# EAGLE library part MSP430G2553_RHB_32 (library Z-Wave_Europe)
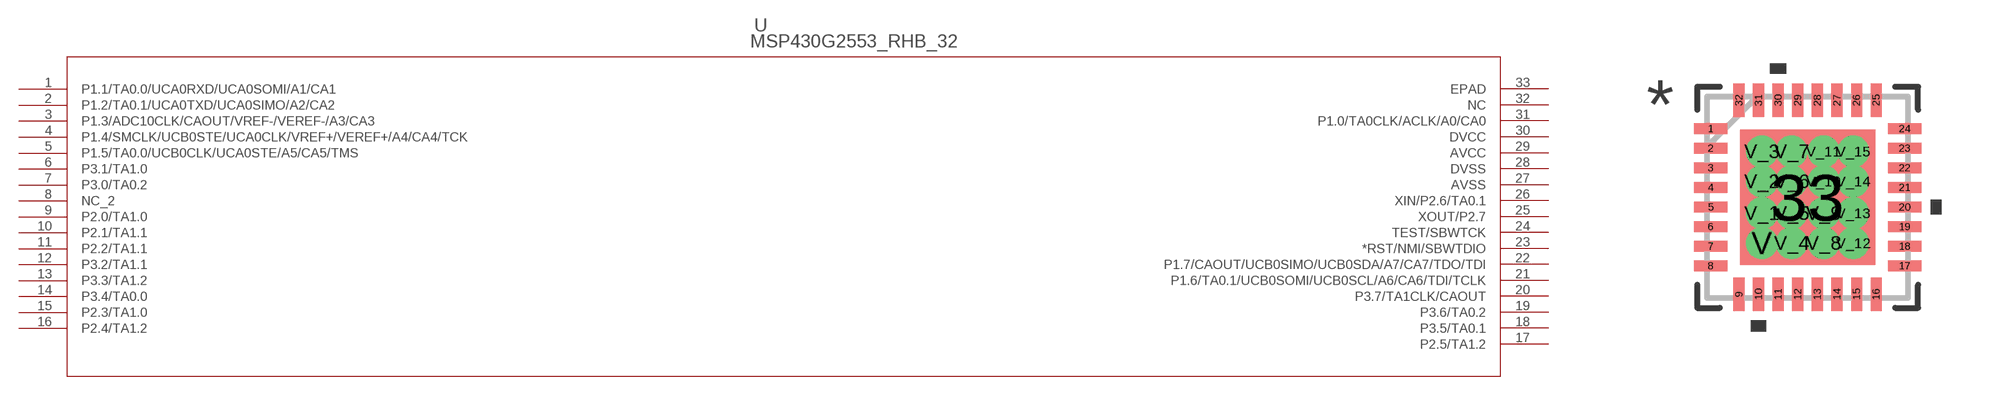
[diagram p1: symbol with the pads of RHB32_3P45X3P45; footprint RHB32_3P45X3P45]

Designator prefix U

## MSP430G2553_RHB_32 (DATASHEETURL: httpwww.ti.comlitgpnMSP430G2553; FAMILY_NAME: Value Line; GENERIC_PART_NUMBER: MSP430G2553; INDUSTRY_STD_PKG_TYPE: QFN; MANUFACTURER: Texas Instruments; MANUFACTURER_PART_NUMBER: msp430g2553_rhb_32; PACKAGE_DESIGNATOR: RHB; PIN_COUNT: 32; VENDOR: Texas Instruments)  [RHB32_3P45X3P45]
1  P1.1/TA0.0/UCA0RXD/UCA0SOMI/A1/CA1
2  P1.2/TA0.1/UCA0TXD/UCA0SIMO/A2/CA2
3  P1.3/ADC10CLK/CAOUT/VREF-/VEREF-/A3/CA3
4  P1.4/SMCLK/UCB0STE/UCA0CLK/VREF+/VEREF+/A4/CA4/TCK
5  P1.5/TA0.0/UCB0CLK/UCA0STE/A5/CA5/TMS
6  P3.1/TA1.0
7  P3.0/TA0.2
8  NC_2  pas
9  P2.0/TA1.0
10  P2.1/TA1.1
11  P2.2/TA1.1
12  P3.2/TA1.1
13  P3.3/TA1.2
14  P3.4/TA0.0
15  P2.3/TA1.0
16  P2.4/TA1.2
17  P2.5/TA1.2
18  P3.5/TA0.1
19  P3.6/TA0.2
20  P3.7/TA1CLK/CAOUT
21  P1.6/TA0.1/UCB0SOMI/UCB0SCL/A6/CA6/TDI/TCLK
22  P1.7/CAOUT/UCB0SIMO/UCB0SDA/A7/CA7/TDO/TDI
23  *RST/NMI/SBWTDIO
24  TEST/SBWTCK
25  XOUT/P2.7
26  XIN/P2.6/TA0.1
27  AVSS  pwr
28  DVSS  pwr
29  AVCC  pwr
30  DVCC  pwr
31  P1.0/TA0CLK/ACLK/A0/CA0
32  NC  pas
33  EPAD  pas

## Footprint RHB32_3P45X3P45 (pad centres in mm)
smd 0.85 x 0.28: 1 -2.475,1.75; 2 -2.475,1.25; 3 -2.475,0.75; 4 -2.475,0.25; 5 -2.475,-0.25; 6 -2.475,-0.75; 7 -2.475,-1.25; 8 -2.475,-1.75; 17 2.475,-1.75; 18 2.475,-1.25; 19 2.475,-0.75; 20 2.475,-0.25; 21 2.475,0.25; 22 2.475,0.75; 23 2.475,1.25; 24 2.475,1.75
smd 0.28 x 0.85: 9 -1.75,-2.475; 10 -1.25,-2.475; 11 -0.75,-2.475; 12 -0.25,-2.475; 13 0.25,-2.475; 14 0.75,-2.475; 15 1.25,-2.475; 16 1.75,-2.475; 25 1.75,2.475; 26 1.25,2.475; 27 0.75,2.475; 28 0.25,2.475; 29 -0.25,2.475; 30 -0.75,2.475; 31 -1.25,2.475; 32 -1.75,2.475
smd 3.45 x 3.45: 33 0,0
drill 0.3 pad 0.508: V -1.168,-1.168; V_1 -1.168,-0.406; V_2 -1.168,0.406; V_3 -1.168,1.168; V_4 -0.406,-1.168; V_5 -0.406,-0.406; V_6 -0.406,0.406; V_7 -0.406,1.168; V_8 0.406,-1.168; V_9 0.406,-0.406; V_10 0.406,0.406; V_11 0.406,1.168; V_12 1.168,-1.168; V_13 1.168,-0.406; V_14 1.168,0.406; V_15 1.168,1.168